# Altium schematic symbol library Discrete_Filters_EMI_GOST.SchLib: 1 symbol
Pins are listed as number, name and electrical type; pins without a type are passive.

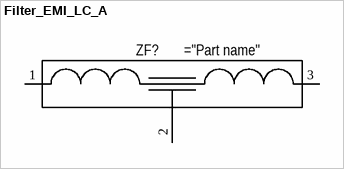
[diagram p0: symbol Filter_EMI_LC_A]

## Filter_EMI_LC_A
designator ZF?
pins: 1, 2, 3